# Altium footprint library SignalCommunications.PCBLIB: 466 footprints (part 9 of 30)
Each footprint in its own frame and in the unit in brackets; x right, y up, seen from the top. Pads: shape width x height; smd on the part's side, far side on the other; paste and mask are expansions set on the pad; w line width, h text height; cw(c..) or ccw(c..) is an arc to the next point about the centre after c.
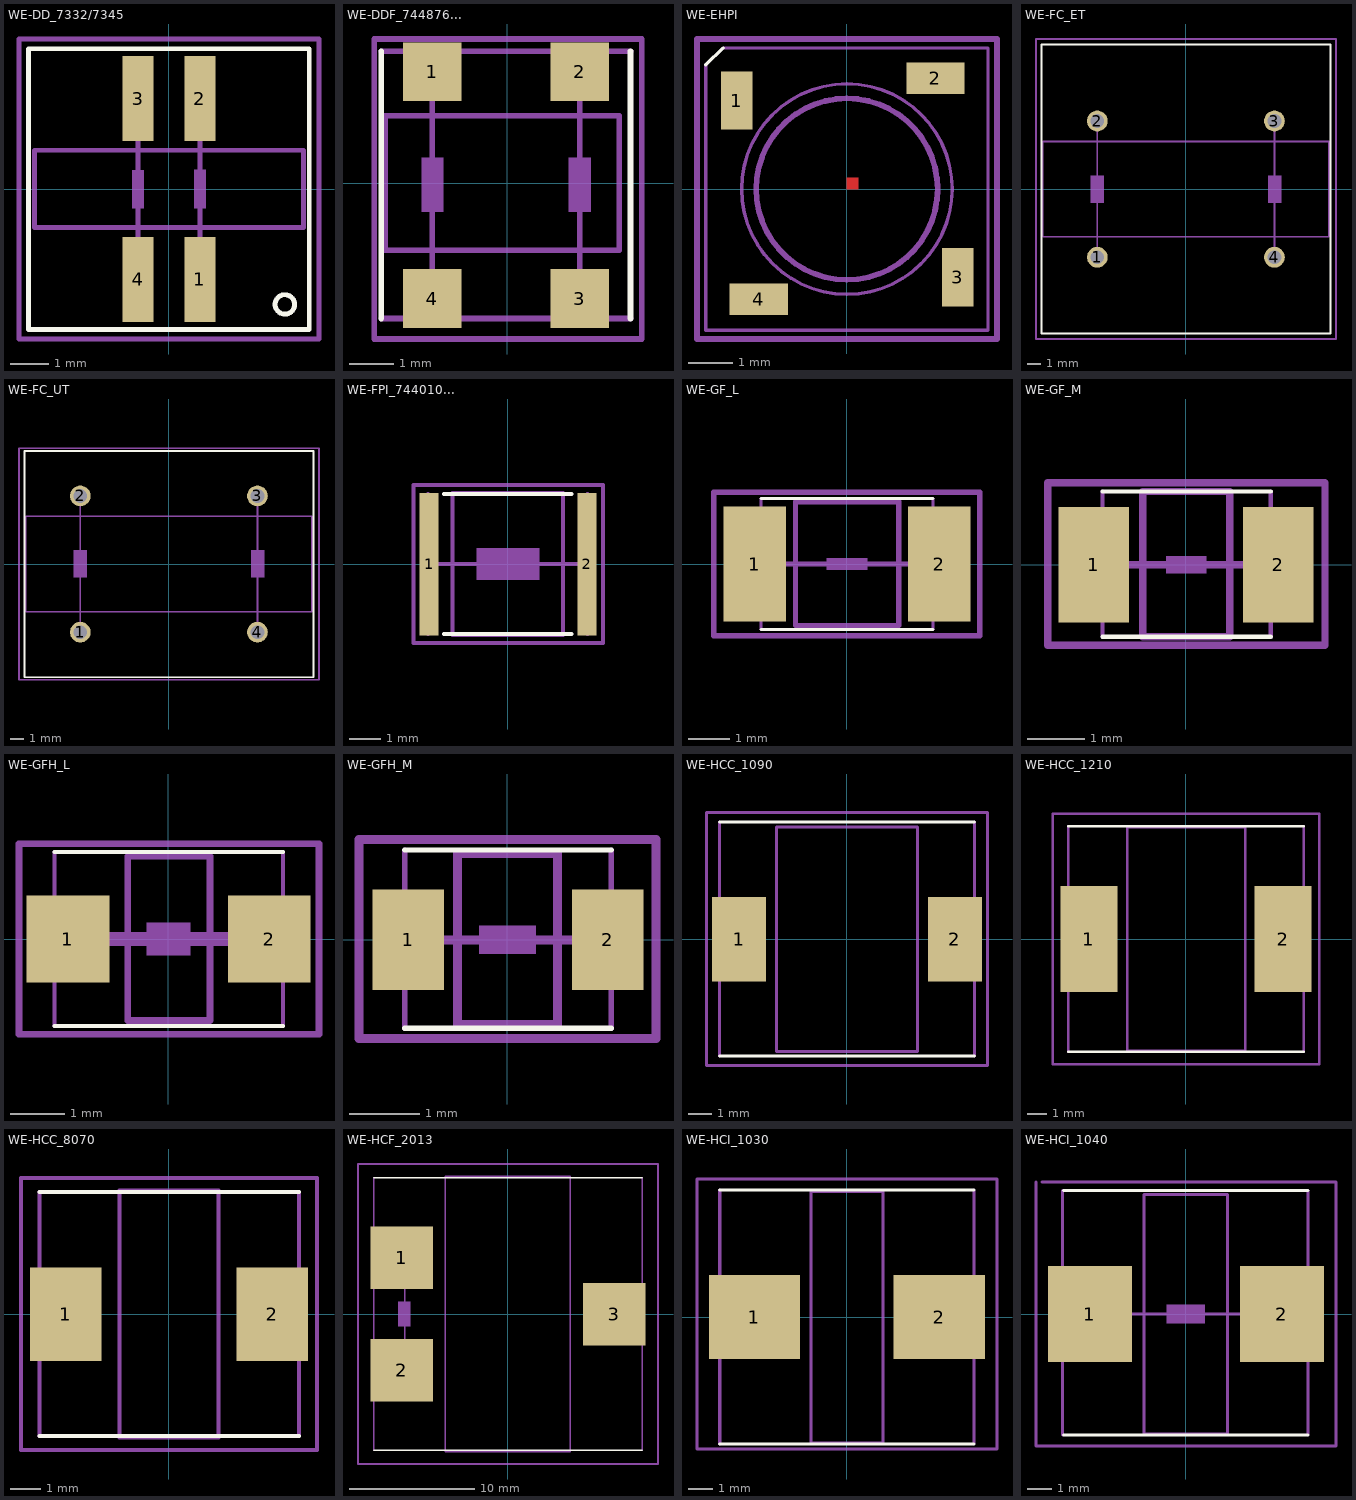
[diagram p8: the footprints below, top view; thin cyan lines are the x and y axes]

## WE-DD_7332/7345 [mil]
pads (4):
  rect 32x87 smd: 1(32,-92.52) 2(32,93) 3(-31.5,93) 4(-31.5,-92.52)
Top Overlay:
  circle w5: c119,-118.11 r10
  lines w5: -143.7,-143.7 144,-143.7 144,144 -143.7,144 -143.7,-143.7
Mechanical 10:
  lines w5: -137.8,-39.37 -137.8,40 138,40 138,-39.37 -137.8,-39.37
Mechanical 16:
  region: 26.05,20.05 26.05,-19.95 37.95,-19.95 37.95,20.05
  region: -37.45,19.73 -37.45,-19.64 -25.54,-19.64 -25.54,19.73
  lines w5: -31.5,-92.52 -31.5,93 ; 32,-92.52 32,93
Mechanical 27:
  lines w5: -153.54,-153.54 -153.54,154 154,154 154,-153.54 -153.54,-153.54

## WE-DDF_744876... [mil]
pads (4):
  rect 52x52 smd: 1(-66.54,99) 2(64,99) 3(64,-101.97) 4(-66.54,-101.97)
Top Overlay:
  lines w5: -111.81,-119.69 -111.81,117 ; 109,-119.69 109,117
Mechanical 10:
  lines w5: -108.27,-59.06 -108.27,60 99,60 99,-59.06 -108.27,-59.06
Mechanical 16:
  rectangle: -76.38,-25.2 -56.69,23
  rectangle: 54,-25.2 74,23
  lines w5: -111.81,-119.69 109,-119.69 ; -111.81,117 109,117 ; -66.54,-101.97 -66.54,99 ; 64,-101.97 64,99
Mechanical 27:
  lines w5: -118.11,-137.8 -118.11,128 119,128 119,-137.8 -118.11,-137.8

## WE-EHPI [mil]
pads (4):
  rect 28x52 smd: 1(-98.43,79) 3(99,-78.74)
  rect 52x28 smd: 2(79,99) 4(-78.74,-98.43)
Top Layer:
  region: 0,0 10,0 10,10 0,10
  region: 0,0 10,0 10,10 0,10
  region: 0,0 10,0 10,10 0,10
  region: 0,0 10,0 10,10 0,10
Top Overlay:
  lines w3: -125.98,111 -110.24,126
Top Paste:
  region: 0,0 10,0 10,10 0,10
  region: 0,0 10,0 10,10 0,10
  region: 0,0 10,0 10,10 0,10
  region: 0,0 10,0 10,10 0,10
Top Solder:
  region: 0,0 10,0 10,10 0,10
  region: 0,0 10,0 10,10 0,10
  region: 0,0 10,0 10,10 0,10
  region: 0,0 10,0 10,10 0,10
Mechanical 10:
  circle w5: c0,0 r81
Mechanical 16:
  circle w3: c0,0 r94
  lines w3: -125.98,111 -125.98,-125.98 126,-125.98 126,126 -110.24,126
Mechanical 27:
  lines w5: -133.86,-133.86 134,-133.86 134,134 -133.86,134 -133.86,-133.86

## WE-FC_ET [mil]
pads (4):
  round 60 hole 40: 1(-255.91,-196.85) 2(-255.91,197) 3(256,197) 4(256,-196.85)
Top Overlay:
  lines w5: -417.32,-417.32 418,-417.32 418,418 -417.32,418 -417.32,-417.32
Mechanical 10:
  lines w5: -413.39,-137.8 -413.39,138 414,138 414,-137.8 -413.39,-137.8
Mechanical 16:
  rectangle: -275.59,-39.37 -236.22,40
  rectangle: 237,-39.37 276,40
  lines w5: -255.91,-196.85 -255.91,-39.37 ; -255.91,40 -255.91,197 ; 256,-196.85 256,-39.37 ; 256,40 256,197
Mechanical 27:
  lines w5: -433.07,-433.07 -433.07,434 434,434 434,-433.07 -433.07,-433.07

## WE-FC_UT [mil]
pads (4):
  round 60 hole 40: 1(-255.91,-196.85) 2(-255.91,197) 3(256,197) 4(256,-196.85)
Top Overlay:
  lines w5: -417.32,-326.77 418,-326.77 418,327 -417.32,327 -417.32,-326.77
Mechanical 10:
  lines w5: -413.39,-137.8 -413.39,138 414,138 414,-137.8 -413.39,-137.8
Mechanical 16:
  rectangle: -275.59,-39.37 -236.22,40
  rectangle: 237,-39.37 276,40
  lines w5: -255.91,-196.85 -255.91,-39.37 ; -255.91,40 -255.91,197 ; 256,-196.85 256,-39.37 ; 256,40 256,197
Mechanical 27:
  lines w5: -433.07,-334.65 -433.07,335 434,335 434,-334.65 -433.07,-334.65

## WE-FPI_744010... [mil]
pads (2):
  rect 24x178 smd: 1(-98.43,0) 2(99,0)
Top Overlay:
  lines w5: -80,-87.5 80,-87.5 ; -80,88 80,88
Mechanical 10:
  lines w5: -68.9,-88.58 -68.9,89 69,89 69,-88.58 -68.9,-88.58
Mechanical 16:
  rectangle: -39.37,-19.68 40,20
  lines w5: -100,-87.5 -100,88 ; -98.43,0 99,0 ; 100,-87.5 100,88
Mechanical 27:
  lines w5: -118.11,-98.43 -118.11,99 119,99 119,-98.43 -118.11,-98.43

## WE-GF_L [mil]
pads (2):
  rect 60x111 smd: 1(-88.58,0) 2(89,0)
Top Overlay:
  lines w3: -82.68,-62.99 83,-62.99 ; -82.68,63 83,63
Mechanical 10:
  lines w5: -49.21,-59.06 -49.21,60 50,60 50,-59.06 -49.21,-59.06
Mechanical 16:
  rectangle: -19.68,-5.91 20,6
  lines w3: -82.68,-62.99 -82.68,63 ; 83,-62.99 83,63
  lines w5: -88.58,0 89,0
Mechanical 27:
  lines w5: -127.95,-68.9 -127.95,69 128,69 128,-68.9 -127.95,-68.9

## WE-GF_M [mil]
pads (2):
  rect 48x79 smd: 1(-62.99,0) 2(63,0)
Top Overlay:
  lines w3: -57.09,-49.21 58,-49.21 ; -57.09,50 58,50
Mechanical 10:
  lines w5: -29.53,-49.21 -29.53,50 30,50 30,-49.21 -29.53,-49.21
Mechanical 16:
  rectangle: -13.78,-5.91 14,6
  lines w3: -57.09,-49.21 -57.09,50 ; 58,-49.21 58,50
  lines w5: -62.99,0 63,0
Mechanical 27:
  lines w5: -94.49,-55.12 -94.49,56 95,56 95,-55.12 -94.49,-55.12

## WE-GFH_L [mil]
pads (2):
  rect 60x63 smd: 1(-72.83,0) 2(73,0)
Top Overlay:
  lines w3: -82.68,-62.99 83,-62.99 ; -82.68,63 83,63
Mechanical 10:
  lines w5: -29.53,-59.06 -29.53,60 30,60 30,-59.06 -29.53,-59.06
Mechanical 16:
  rectangle: -15.75,-11.81 16,12
  lines w3: -82.68,-62.99 -82.68,-23.62 ; -82.68,63 -82.68,24 ; 83,-62.99 83,-23.62 ; 83,63 83,24 ; -82.68,-23.62 -82.68,24 ; -82.68,-23.62 -88.58,-23.62 -88.58,24 -82.68,24 ; 83,-23.62 83,24 ; 83,-23.62 89,-23.62 89,24 83,24
  lines w10: -72.83,0 73,0
Mechanical 27:
  lines w5: -108.27,-68.9 -108.27,69 109,69 109,-68.9 -108.27,-68.9

## WE-GFH_M [mil]
pads (2):
  rect 40x56 smd: 1(-55.12,0) 2(56,0)
Top Overlay:
  lines w3: -57.09,-49.21 58,-49.21 ; -57.09,50 58,50
Mechanical 10:
  lines w5: -27.56,-47.24 -27.56,48 28,48 28,-47.24 -27.56,-47.24
Mechanical 16:
  rectangle: -15.75,-7.87 16,8
  lines w3: -57.09,-49.21 -57.09,-19.68 ; -57.09,50 -57.09,20 ; 58,-49.21 58,-19.68 ; 58,50 58,20 ; -57.09,-19.68 -57.09,20 ; -57.09,-19.68 -62.99,-19.68 -62.99,20 -57.09,20 ; 58,-19.68 58,20 ; 58,-19.68 63,-19.68 63,20 58,20
  lines w5: -55.12,0 56,0
Mechanical 27:
  lines w5: -82.68,-55.12 -82.68,56 83,56 83,-55.12 -82.68,-55.12

## WE-HCC_1090 [mil]
pads (2):
  rect 91x142 smd: 1(-181.1,0) 2(182,0)
Top Overlay:
  lines w5: -214.57,-196.85 215,-196.85 ; -214.57,197 215,197
Mechanical 10:
  lines w5: -118.11,-188.98 -118.11,189 119,189 119,-188.98 -118.11,-188.98
Mechanical 16:
  lines w5: -214.57,-196.85 -214.57,197 ; 215,-196.85 215,197
Mechanical 27:
  lines w5: -236.22,-212.6 -236.22,213 237,213 237,-212.6 -236.22,-212.6

## WE-HCC_1210 [mil]
pads (2):
  rect 115x213 smd: 1(-194.88,0) 2(195,0)
Top Overlay:
  lines w5: -236.22,-226.38 237,-226.38 ; -236.22,227 237,227
Mechanical 10:
  lines w5: -118.11,-224.41 -118.11,225 119,225 119,-224.41 -118.11,-224.41
Mechanical 16:
  lines w5: -236.22,-226.38 -236.22,227 ; 237,-226.38 237,227
Mechanical 27:
  lines w5: -267.72,-251.97 -267.72,252 268,252 268,-251.97 -267.72,-251.97

## WE-HCC_8070 [mil]
pads (2):
  rect 91x119 smd: 1(-131.89,0) 2(132,0)
Top Overlay:
  lines w5: -165.35,-155.51 166,-155.51 ; -165.35,156 166,156
Mechanical 10:
  lines w5: -62.99,-157.48 -62.99,158 63,158 63,-157.48 -62.99,-157.48
Mechanical 16:
  lines w5: -165.35,-155.51 -165.35,156 ; 166,-155.51 166,156
Mechanical 27:
  lines w5: -188.98,-173.23 -188.98,174 189,174 189,-173.23 -188.98,-173.23

## WE-HCF_2013 [mil]
pads (3):
  rect 197x197 smd: 1(-334.65,178) 2(-334.65,-177.17) 3(335,0)
Top Overlay:
  lines w5: -423.23,-429.13 424,-429.13 ; -423.23,430 424,430
Mechanical 10:
  lines w5: -196.85,-433.07 -196.85,434 197,434 197,-433.07 -196.85,-433.07
Mechanical 16:
  rectangle: -346.85,-39.37 -307.48,40
  lines w5: -423.23,-429.13 -423.23,430 ; -325.2,-147.64 -325.2,148 ; 424,-429.13 424,430
Mechanical 27:
  lines w5: -472.44,-472.44 -472.44,473 473,473 473,-472.44 -472.44,-472.44

## WE-HCI_1030 [mil]
pads (2):
  rect 150x138 smd: 1(-151.57,0) 2(152,0)
Top Overlay:
  lines w5: -208.66,-208.66 209,-208.66 ; -208.66,209 209,209
Mechanical 10:
  lines w5: -59.06,-206.69 -59.06,207 60,207 60,-206.69 -59.06,-206.69
Mechanical 16:
  lines w5: -208.66,-208.66 -208.66,209 ; 209,-208.66 209,209
Mechanical 27:
  lines w5: -246.06,-216.54 -246.06,227 247,227 247,-216.54 -246.06,-216.54

## WE-HCI_1040 [mil]
pads (2):
  rect 138x158 smd: 1(-157.48,0) 2(158,0)
Top Overlay:
  lines w5: -200.79,-198.82 201,-198.82 ; -200.79,203 201,203
Mechanical 10:
  lines w5: -68.9,-196.85 -68.9,197 69,197 69,-196.85 -68.9,-196.85
Mechanical 16:
  rectangle: -31.5,-15.75 32,16
  lines w5: -202.76,-198.82 -202.76,203 ; -157.48,0 158,0 ; 201,-198.82 201,203
Mechanical 27:
  lines w5: -246.06,217 -246.06,-216.54 247,-216.54 247,217 -236.22,217